# Altium footprint library DM3CSSF.PcbLib: 1 footprints
Each footprint in its own frame and in the unit in brackets; x right, y up, seen from the top. Pads: shape width x height; smd on the part's side, far side on the other; paste and mask are expansions set on the pad; w line width, h text height; cw(c..) or ccw(c..) is an arc to the next point about the centre after c.
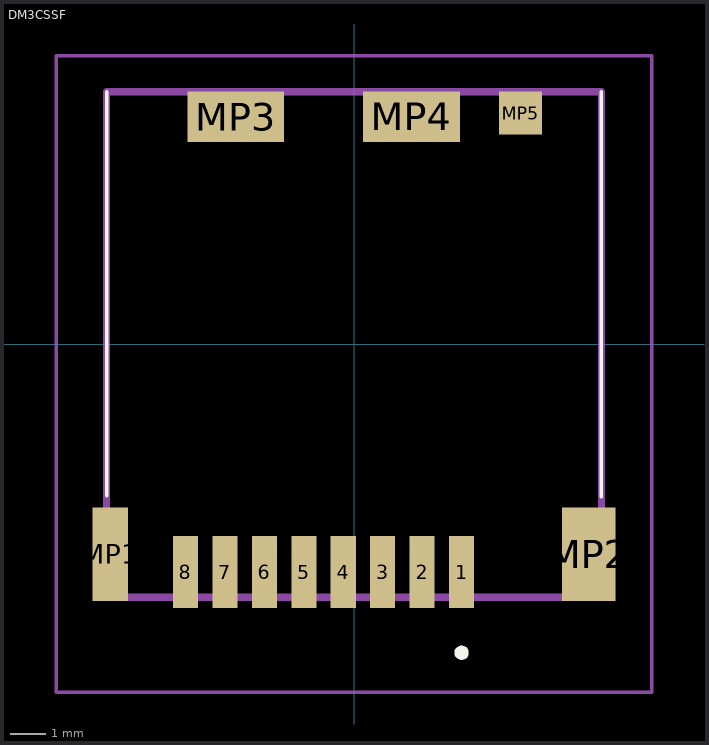
[diagram p0: the footprint, top view; thin cyan lines are the x and y axes]

## DM3CSSF [mm]
pads (13):
  rect 0.7x2 smd: 1(3,-6.35) 2(1.9,-6.35) 3(0.8,-6.35) 4(-0.3,-6.35) 5(-1.4,-6.35) 6(-2.5,-6.35) 7(-3.6,-6.35) 8(-4.7,-6.35)
  rect 1x2.6 smd: MP1(-6.8,-5.85)
  rect 1.5x2.6 smd: MP2(6.55,-5.85)
  rect 2.7x1.4 smd: MP3(-3.3,6.35) MP4(1.6,6.35)
  rect 1.2x1.2 smd: MP5(4.65,6.45)
Top Overlay:
  lines w0.1: -6.9,-4.224 -6.9,7.05 ; 6.9,-4.25 6.9,7.05
  lines w0.2: 3,-8.7 cw(c3,-8.6) 3,-8.5 ; 3,-8.7 3,-8.7 ; 3,-8.7 ccw(c3,-8.6) 3,-8.5 ; 3,-8.5 3,-8.5
Mechanical 15:
  lines w0.2: -6.9,-7.05 6.9,-7.05 6.9,7.05 -6.9,7.05 -6.9,-7.05
Mechanical 20:
  lines w0.1: -8.3,-9.7 8.3,-9.7 8.3,8.05 -8.3,8.05 -8.3,-9.7
3D body "DM3CS-SF.stp": height 5.8, standoff -4.65, extent -10,-3.376 10,3.376